# EAGLE library part A3938 (library allegro)
Three-Phase Power MOSFET Controller Selectable coast or dynamic brake on power-loss, external FETs. Temp range -20 to 85 C
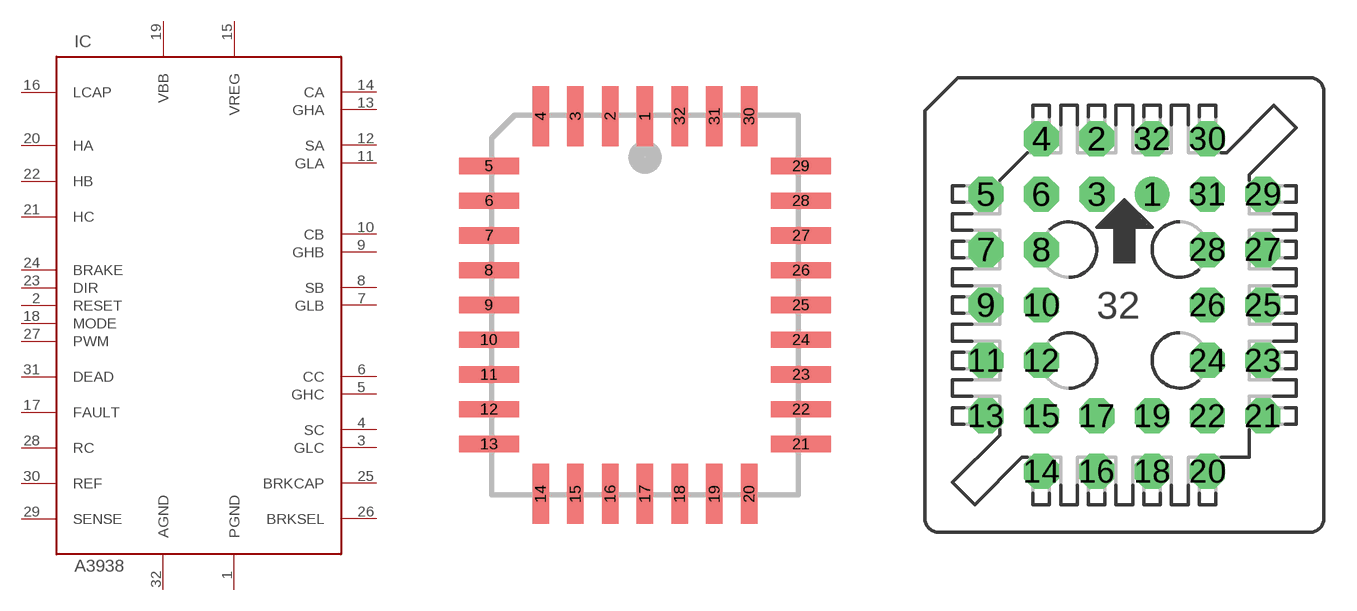
[diagram p4: symbol with the pads of PLCC32R; footprints PLCC32R, PLCC32R-S]

Designator prefix IC

## A3938EQ  [PLCC32R]
1  PGND  pwr
2  RESET  in
3  GLC  out
4  SC  out
5  GHC  out
6  CC  out
7  GLB  out
8  SB  out
9  GHB  out
10  CB  out
11  GLA  out
12  SA  out
13  GHA  out
14  CA  out
15  VREG  pwr
16  LCAP
17  FAULT  out
18  MODE  in
19  VBB  pwr
20  HA  in
21  HC  in
22  HB  in
23  DIR  in
24  BRAKE  in
25  BRKCAP
26  BRKSEL  in
27  PWM  in
28  RC
29  SENSE  in
30  REF  in
31  DEAD  in
32  AGND  pwr

## A3938EQ-S  [PLCC32R-S]
Pads as for PLCC32R

## A3938LD  [TSSOP38]
1  RESET  in
2  GLC  out
3  SC  out
6  GHC  out
7  CC  out
8  GLB  out
9  SB  out
10  GHB  out
11  CB  out
12  GLA  out
13  SA  out
14  GHA  out
15  CA  out
16  VREG  pwr
17  LCAP
19  FAULT  out
20  MODE  in
21  VBB  pwr
22  HA  in
24  HC  in
25  HB  in
26  DIR  in
27  BRAKE  in
28  BRKCAP
29  BRKSEL  in
30  PWM  in
31  RC
32  SENSE  in
33  REF  in
34  DEAD  in
35  AGND  pwr
36  PGND  pwr

## Footprint PLCC32R (pad centres in mm)
32-pin Rectangular Plastic Lead Chip Carrier
smd 0.6 x 2.2: 1 0,6.9; 2 -1.27,6.9; 3 -2.54,6.9; 4 -3.81,6.9; 14 -3.81,-6.9; 15 -2.54,-6.9; 16 -1.27,-6.9; 17 0,-6.9; 18 1.27,-6.9; 19 2.54,-6.9; 20 3.81,-6.9; 30 3.81,6.9; 31 2.54,6.9; 32 1.27,6.9
smd 2.2 x 0.6: 5 -5.7,5.08; 6 -5.7,3.81; 7 -5.7,2.54; 8 -5.7,1.27; 9 -5.7,0; 10 -5.7,-1.27; 11 -5.7,-2.54; 12 -5.7,-3.81; 13 -5.7,-5.08; 21 5.7,-5.08; 22 5.7,-3.81; 23 5.7,-2.54; 24 5.7,-1.27; 25 5.7,0; 26 5.7,1.27; 27 5.7,2.54; 28 5.7,3.81; 29 5.7,5.08

## Footprint PLCC32R-S (pad centres in mm)
32-pin rectangular PLCC socket, through-hole
drill 0.7 pad 1.6 round: 1 1.27,5.08
drill 0.7 pad 1.6 octagon: 2 -1.27,7.62; 3 -1.27,5.08; 4 -3.81,7.62; 5 -6.35,5.08; 6 -3.81,5.08; 7 -6.35,2.54; 8 -3.81,2.54; 9 -6.35,0; 10 -3.81,0; 11 -6.35,-2.54; 12 -3.81,-2.54; 13 -6.35,-5.08; 14 -3.81,-7.62; 15 -3.81,-5.08; 16 -1.27,-7.62; 17 -1.27,-5.08; 18 1.27,-7.62; 19 1.27,-5.08; 20 3.81,-7.62; 21 6.35,-5.08; 22 3.81,-5.08; 23 6.35,-2.54; 24 3.81,-2.54; 25 6.35,0; 26 3.81,0; 27 6.35,2.54; 28 3.81,2.54; 29 6.35,5.08; 30 3.81,7.62; 31 3.81,5.08; 32 1.27,7.62

## Footprint TSSOP38 (pad centres in mm)
38-pin Thin Shrink Small Outline Package
smd 0.305 x 0.991: 1 -4.572,-2.54; 2 -4.064,-2.54; 3 -3.556,-2.54; 4 -3.048,-2.54; 5 -2.54,-2.54; 6 -2.032,-2.54; 7 -1.524,-2.54; 8 -1.016,-2.54; 9 -0.508,-2.54; 10 0,-2.54; 11 0.508,-2.54; 12 1.016,-2.54; 13 1.524,-2.54; 14 2.032,-2.54; 15 2.54,-2.54; 16 3.048,-2.54; 17 3.556,-2.54; 18 4.064,-2.54; 19 4.572,-2.54; 20 4.572,2.54; 21 4.064,2.54; 22 3.556,2.54; 23 3.048,2.54; 24 2.54,2.54; 25 2.032,2.54; 26 1.524,2.54; 27 1.016,2.54; 28 0.508,2.54; 29 0,2.54; 30 -0.508,2.54; 31 -1.016,2.54; 32 -1.524,2.54; 33 -2.032,2.54; 34 -2.54,2.54; 35 -3.048,2.54; 36 -3.556,2.54; 37 -4.064,2.54; 38 -4.572,2.54